# Altium footprint library Transformer.PcbLib: 3 footprints
Each footprint in its own frame and in the unit in brackets; x right, y up, seen from the top. Pads: shape width x height; smd on the part's side, far side on the other; paste and mask are expansions set on the pad; w line width, h text height; cw(c..) or ccw(c..) is an arc to the next point about the centre after c.
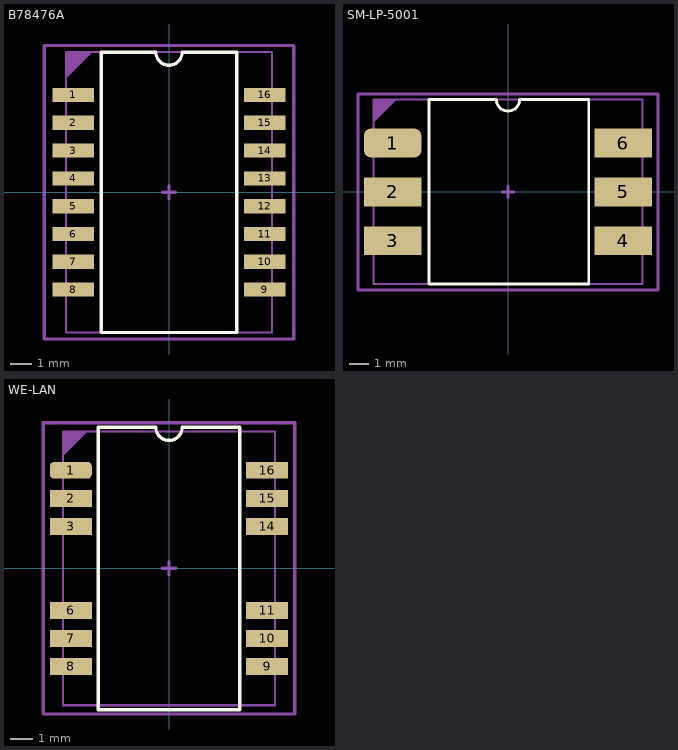
[diagram p0: the footprints below, top view; thin cyan lines are the x and y axes]

## B78476A [mm]
pads (16):
  rect 1.9x0.65 smd: 1(-4.38,4.445) 2(-4.38,3.175) 3(-4.38,1.905) 4(-4.38,0.635) 5(-4.38,-0.635) 6(-4.38,-1.905) 7(-4.38,-3.175) 8(-4.38,-4.445) 9(4.38,-4.445) 10(4.38,-3.175) 11(4.38,-1.905) 12(4.38,-0.635) 13(4.38,0.635) 14(4.38,1.905) 15(4.38,3.175) 16(4.38,4.445)
Top Overlay:
  lines w0.153: -3.1,-6.4 3.1,-6.4 3.1,6.4 0.6,6.4 cw(c0,6.4) -0.6,6.4 -3.1,6.4 -3.1,-6.4
Top Assembly:
  region: -4.7,6.4 -4.7,5.2 -3.5,6.4
  lines w0.1: -4.7,-6.4 4.7,-6.4 4.7,6.4 -4.7,6.4 -4.7,-6.4
  text "'.Designator'" at -4.532,-0.333 h0.8
Top Courtyard:
  lines w0.153: -0.3,0 0.3,0 ; 0,-0.3 0,0.3 ; -5.7,-6.7 -5.7,6.7 5.7,6.7 5.7,-6.7 -5.7,-6.7
3D body "User Library-b78476a8247a003.step": height 5.6, standoff 0, extent -4.7,-6.35 4.7,6.35

## SM-LP-5001 [mm]
pads (6):
  rrect50% 3x1.5 smd: 1(-6,2.54)
  rect 3x1.5 smd: 2(-6,0) 3(-6,-2.54) 4(6,-2.54) 5(6,0) 6(6,2.54)
Top Overlay:
  lines w0.153: -4.1,-4.8 -4.1,4.8 -0.6,4.8 ccw(c0,4.8) 0.6,4.8 4.2,4.8 4.2,-4.8 -4.1,-4.8
Top Assembly:
  region: -7,4.8 -7,3.6 -5.8,4.8
  lines w0.1: -7,-4.8 7,-4.8 7,4.8 -7,4.8 -7,-4.8
  text "'.Designator'" at -4.532,-0.333 h0.8
Top Courtyard:
  lines w0.153: -0.3,0 0.3,0 ; 0,-0.3 0,0.3 ; -7.8,-5.1 -7.8,5.1 7.8,5.1 7.8,-5.1 -7.8,-5.1
3D body "User Library-SM-LP-5001.step": height 7.33, standoff -0.03, extent -7,-4.8 7,4.8

## WE-LAN [mm]
pads (12):
  rrect50% 1.9x0.76 smd: 1(-4.45,4.445)
  rect 1.9x0.76 smd: 2(-4.45,3.175) 3(-4.45,1.905) 6(-4.45,-1.905) 7(-4.45,-3.175) 8(-4.45,-4.445) 9(4.45,-4.445) 10(4.45,-3.175) 11(4.45,-1.905) 14(4.45,1.905) 15(4.45,3.175) 16(4.45,4.445)
Top Overlay:
  lines w0.153: -3.2,-6.4 -3.2,6.4 -0.6,6.4 ccw(c0,6.4) 0.6,6.4 3.2,6.4 3.2,-6.4 -3.2,-6.4
Top Assembly:
  region: -4.8,6.2 -3.7,6.2 -4.8,5.1
  lines w0.1: -4.8,-6.2 4.8,-6.2 4.8,6.2 -4.8,6.2 -4.8,-6.2
  text "'.Designator'" at -4.532,-0.333 h0.8
Top Courtyard:
  lines w0.153: -0.3,0 0.3,0 ; 0,-0.3 0,0.3 ; -5.7,-6.6 5.7,-6.6 5.7,6.6 -5.7,6.6 -5.7,-6.6
3D body "WE-LAN-749020100A (rev1).stp": height 2.94, standoff 0, extent -4.75,-6.225 4.75,6.225